# Altium schematic symbol library Schlib1.SchLib: 6 symbols
Pins are listed as number, name and electrical type; pins without a type are passive.

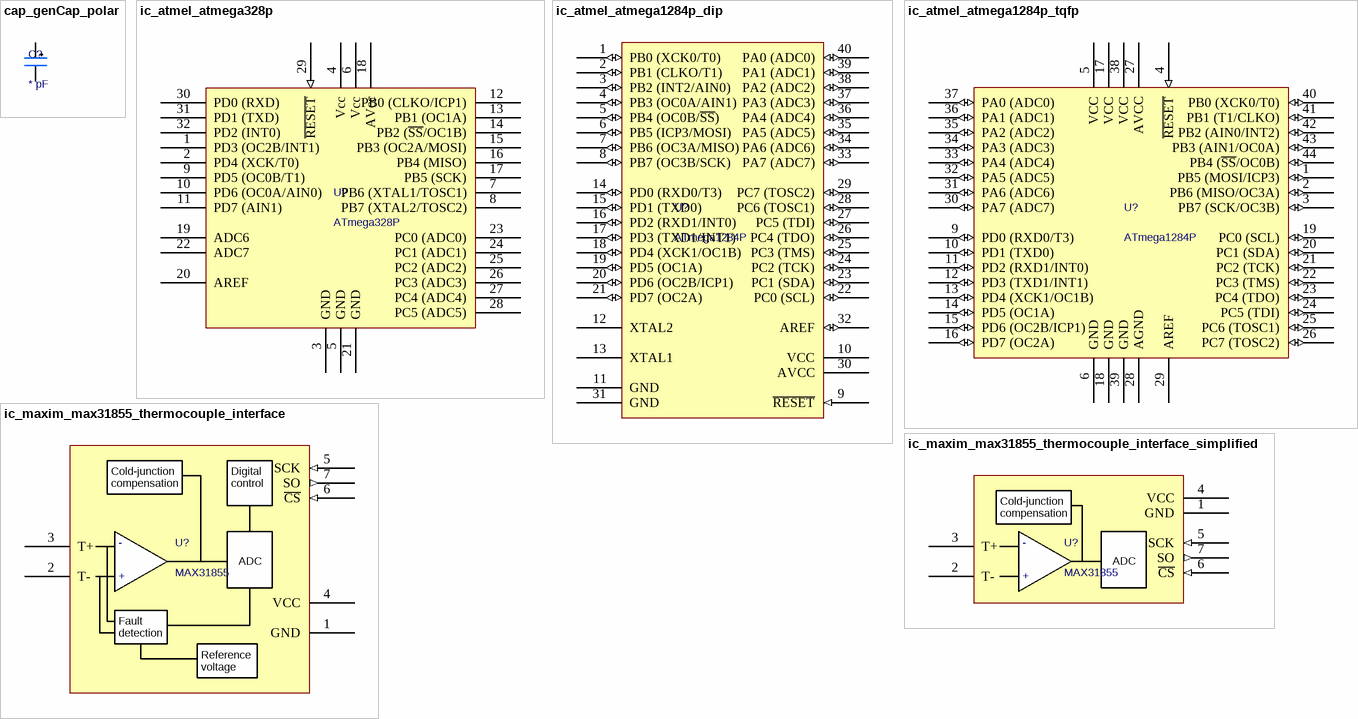
[diagram p0: symbols cap_genCap_polar to ic_maxim_max31855_thermocouple_interface_simplified]

## cap_genCap_polar
designator C?, comment * pF
Generic polar capacitor; Value: * pF
pins: 1, 2

## ic_atmel_atmega328p
designator U?, comment ATmega328P
Atmel 8 bit microcontroller; Supply voltage: *; Clock frequency: *
footprint ic_atmel_atmega328p (TQFP, 32-Leads, Body 7,00x7,00mm, Pitch 0,80mm, IPC Medium Density)
pins: 1 PD3 (OC2B/INT1), 2 PD4 (XCK/T0), 3 GND (power), 4 Vcc (power), 5 GND (power), 6 Vcc (power), 7 PB6 (XTAL1/TOSC1), 8 PB7 (XTAL2/TOSC2), 9 PD5 (OC0B/T1), 10 PD6 (OC0A/AIN0), 11 PD7 (AIN1), 12 PB0 (CLKO/ICP1), 13 PB1 (OC1A), 14 PB2 (~{SS}/OC1B), 15 PB3 (OC2A/MOSI), 16 PB4 (MISO), 17 PB5 (SCK), 18 AVcc (power), 19 ADC6, 20 AREF, 21 GND (power), 22 ADC7, 23 PC0 (ADC0), 24 PC1 (ADC1), 25 PC2 (ADC2), 26 PC3 (ADC3), 27 PC4 (ADC4), 28 PC5 (ADC5), 29 ~{RESET} (in), 30 PD0 (RXD), 31 PD1 (TXD), 32 PD2 (INT0)

## ic_atmel_atmega1284p_dip
designator U?, comment ATmega1284P
Atmel AVR 8 bit microcontroller
pins: 1 PB0 (XCK0/T0) (io), 2 PB1 (CLKO/T1) (io), 3 PB2 (INT2/AIN0) (io), 4 PB3 (OC0A/AIN1) (io), 5 PB4 (OC0B/~{SS}) (io), 6 PB5 (ICP3/MOSI) (io), 7 PB6 (OC3A/MISO) (io), 8 PB7 (OC3B/SCK) (io), 9 ~{RESET} (in), 10 VCC (power), 11 GND (power), 12 XTAL2, 13 XTAL1, 14 PD0 (RXD0/T3) (io), 15 PD1 (TXD0) (io), 16 PD2 (RXD1/INT0) (io), 17 PD3 (TXD1/INT1) (io), 18 PD4 (XCK1/OC1B) (io), 19 PD5 (OC1A) (io), 20 PD6 (OC2B/ICP1) (io), 21 PD7 (OC2A) (io), 22 PC0 (SCL) (io), 23 PC1 (SDA) (io), 24 PC2 (TCK) (io), 25 PC3 (TMS) (io), 26 PC4 (TDO) (io), 27 PC5 (TDI) (io), 28 PC6 (TOSC1) (io), 29 PC7 (TOSC2) (io), 30 AVCC (power), 31 GND (power), 32 AREF (io), 33 PA7 (ADC7) (io), 34 PA6 (ADC6) (io), 35 PA5 (ADC5) (io), 36 PA4 (ADC4) (io), 37 PA3 (ADC3) (io), 38 PA2 (ADC2) (io), 39 PA1 (ADC1) (io), 40 PA0 (ADC0) (io)

## ic_atmel_atmega1284p_tqfp
designator U?, comment ATmega1284P
Atmel AVR 8 bit microcontroller
pins: 1 PB5 (MOSI/ICP3) (io), 2 PB6 (MISO/OC3A) (io), 3 PB7 (SCK/OC3B) (io), 4 ~{RESET} (in), 5 VCC (power), 6 GND (power), 9 PD0 (RXD0/T3) (io), 10 PD1 (TXD0) (io), 11 PD2 (RXD1/INT0) (io), 12 PD3 (TXD1/INT1) (io), 13 PD4 (XCK1/OC1B) (io), 14 PD5 (OC1A) (io), 15 PD6 (OC2B/ICP1) (io), 16 PD7 (OC2A) (io), 17 VCC (power), 18 GND (power), 19 PC0 (SCL) (io), 20 PC1 (SDA) (io), 21 PC2 (TCK) (io), 22 PC3 (TMS) (io), 23 PC4 (TDO) (io), 24 PC5 (TDI) (io), 25 PC6 (TOSC1) (io), 26 PC7 (TOSC2) (io), 27 AVCC (power), 28 AGND (power), 29 AREF, 30 PA7 (ADC7) (io), 31 PA6 (ADC6) (io), 32 PA5 (ADC5) (io), 33 PA4 (ADC4) (io), 34 PA3 (ADC3) (io), 35 PA2 (ADC2) (io), 36 PA1 (ADC1) (io), 37 PA0 (ADC0) (io), 38 VCC (power), 39 GND (power), 40 PB0 (XCK0/T0) (io), 41 PB1 (T1/CLKO) (io), 42 PB2 (AIN0/INT2) (io), 43 PB3 (AIN1/OC0A) (io), 44 PB4 (~{SS}/OC0B) (io)

## ic_maxim_max31855_thermocouple_interface
designator U?, comment MAX31855
Maxim MAX31855 thermocouple interface
pins: 1 GND (power), 2 T-, 3 T+, 4 VCC (power), 5 SCK (in), 6 ~{CS} (in), 7 SO (out)
text: Cold-junction / compensation; Digital / control; -; ADC; +; Fault / detection; Reference / voltage

## ic_maxim_max31855_thermocouple_interface_simplified
designator U?, comment MAX31855
Maxim MAX31855 thermocouple interface
pins: 1 GND (power), 2 T-, 3 T+, 4 VCC (power), 5 SCK (in), 6 ~{CS} (in), 7 SO (out)
text: Cold-junction / compensation; -; ADC; +